# Altium schematic symbol library MT_Chip.SchLib: 50 symbols
Pins are listed as number, name and electrical type; pins without a type are passive.

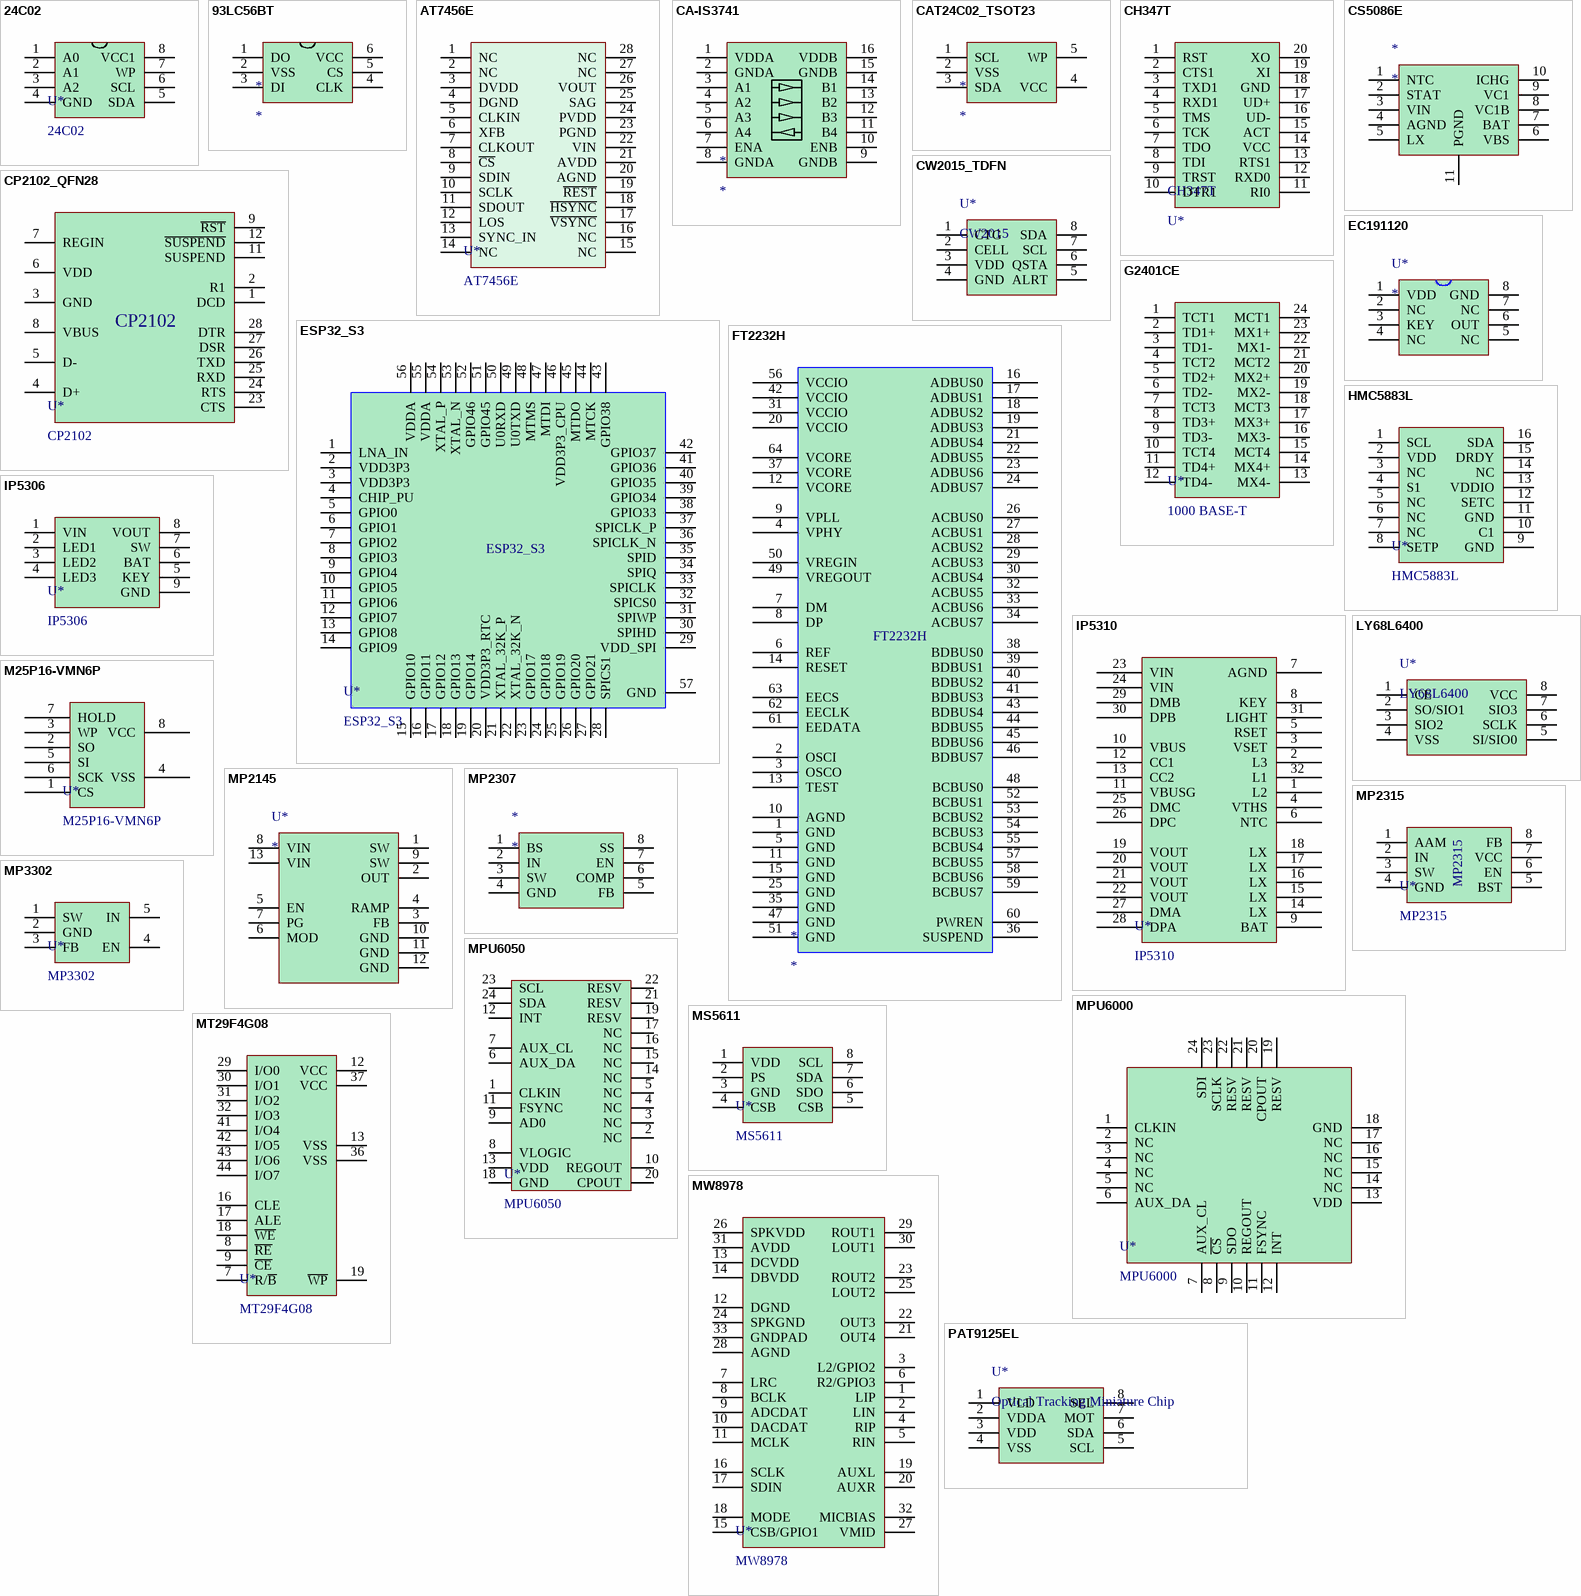
[diagram p0: symbols 24C02 to PAT9125EL]

## 24C02
designator U*
EEPROM
footprint DIP8
pins: 1 A0, 2 A1, 3 A2, 4 GND, 5 SDA, 6 SCL, 7 WP, 8 VCC1

## 93LC56BT
designator *
EEPROM
footprint SOT_23_6
pins: 1 DO, 2 VSS, 3 DI, 4 CLK, 5 CS, 6 VCC

## AT7456E
designator U*
显示驱动
footprint TSSOP28
pins: 1 NC, 2 NC, 3 DVDD, 4 DGND, 5 CLKIN, 6 XFB, 7 CLKOUT, 8 ~{CS}, 9 SDIN, 10 SCLK, 11 SDOUT, 12 LOS, 13 SYNC_IN, 14 NC, 15 NC, 16 NC, 17 ~{VSYNC}, 18 ~{HSYNC}, 19 ~{REST}, 20 AGND, 21 AVDD, 22 VIN, 23 PGND, 24 PVDD, 25 SAG, 26 VOUT, 27 NC, 28 NC

## CA-IS3741
designator *
高速四通道数字隔离器
footprint SOIC16N
pins: 1 VDDA, 2 GNDA, 3 A1, 4 A2, 5 A3, 6 A4, 7 ENA, 8 GNDA, 9 GNDB, 10 ENB, 11 B4, 12 B3, 13 B2, 14 B1, 15 GNDB, 16 VDDB

## CAT24C02_TSOT23
designator *
EEPROM
footprint SOT_23_5
pins: 1 SCL, 2 VSS, 3 SDA, 4 VCC, 5 WP

## CH347T
designator CH347T, comment U*
USB
footprint TSSOP20
pins: 1 RST, 2 CTS1, 3 TXD1, 4 RXD1, 5 TMS, 6 TCK, 7 TDO, 8 TDI, 9 TRST, 10 DTR1, 11 RI0, 12 RXD0, 13 RTS1, 14 VCC, 15 ACT, 16 UD-, 17 UD+, 18 GND, 19 XI, 20 XO

## CP2102_QFN28
designator U*, comment CP2102
USB转TTL
footprint QFN28
pins: 1 DCD, 2 R1, 3 GND, 4 D+, 5 D-, 6 VDD, 7 REGIN, 8 VBUS, 9 ~{RST}, 11 SUSPEND, 12 ~{SUSPEND}, 23 CTS, 24 RTS, 25 RXD, 26 TXD, 27 DSR, 28 DTR

## CS5086E
designator *
5V 2S电池充电
footprint ESOP10L
pins: 1 NTC, 2 STAT, 3 VIN, 4 AGND, 5 LX, 6 VBS, 7 BAT, 8 VC1B, 9 VC1, 10 ICHG, 11 PGND

## CW2015_TDFN
designator U*, comment CW2015
锂电池电量计
footprint CW2015_TDFN
pins: 1 CTG, 2 CELL, 3 VDD, 4 GND, 5 ALRT, 6 QSTA, 7 SCL, 8 SDA

## EC191120
designator U*
2秒开关机
footprint SOP8-150MIL
pins: 1 VDD, 2 NC, 3 KEY, 4 NC, 5 NC, 6 OUT, 7 NC, 8 GND

## ESP32_S3
designator U*
ESP32
footprint QFN56
pins: 1 LNA_IN, 2 VDD3P3, 3 VDD3P3, 4 CHIP_PU, 5 GPIO0, 6 GPIO1, 7 GPIO2, 8 GPIO3, 9 GPIO4, 10 GPIO5, 11 GPIO6, 12 GPIO7, 13 GPIO8, 14 GPIO9, 15 GPIO10, 16 GPIO11, 17 GPIO12, 18 GPIO13, 19 GPIO14, 20 VDD3P3_RTC, 21 XTAL_32K_P, 22 XTAL_32K_N, 23 GPIO17, 24 GPIO18, 25 GPIO19, 26 GPIO20, 27 GPIO21, 28 SPICS1, 29 VDD_SPI, 30 SPIHD, 31 SPIWP, 32 SPICS0, 33 SPICLK, 34 SPIQ, 35 SPID, 36 SPICLK_N, 37 SPICLK_P, 38 GPIO33, 39 GPIO34, 40 GPIO35, 41 GPIO36, 42 GPIO37, 43 GPIO38, 44 MTCK, 45 MTDO, 46 VDD3P3_CPU, 47 MTDI, 48 MTMS, 49 U0TXD, 50 U0RXD, 51 GPIO45, 52 GPIO46, 53 XTAL_N, 54 XTAL_P, 55 VDDA, 56 VDDA, 57 GND

## FT2232H
designator *
USB
footprint LQFP64
pins: 1 GND, 2 OSCI, 3 OSCO, 4 VPHY, 5 GND, 6 REF, 7 DM, 8 DP, 9 VPLL, 10 AGND, 11 GND, 12 VCORE, 13 TEST, 14 RESET, 15 GND, 16 ADBUS0, 17 ADBUS1, 18 ADBUS2, 19 ADBUS3, 20 VCCIO, 21 ADBUS4, 22 ADBUS5, 23 ADBUS6, 24 ADBUS7, 25 GND, 26 ACBUS0, 27 ACBUS1, 28 ACBUS2, 29 ACBUS3, 30 ACBUS4, 31 VCCIO, 32 ACBUS5, 33 ACBUS6, 34 ACBUS7, 35 GND, 36 SUSPEND, 37 VCORE, 38 BDBUS0, 39 BDBUS1, 40 BDBUS2, 41 BDBUS3, 42 VCCIO, 43 BDBUS4, 44 BDBUS5, 45 BDBUS6, 46 BDBUS7, 47 GND, 48 BCBUS0, 49 VREGOUT, 50 VREGIN, 51 GND, 52 BCBUS1, 53 BCBUS2, 54 BCBUS3, 55 BCBUS4, 56 VCCIO, 57 BCBUS5, 58 BCBUS6, 59 BCBUS7, 60 PWREN, 61 EEDATA, 62 EECLK, 63 EECS, 64 VCORE

## G2401CE
designator U*, comment 1000 BASE-T
网络变压器
footprint G2401CE
pins: 1 TCT1, 2 TD1+, 3 TD1-, 4 TCT2, 5 TD2+, 6 TD2-, 7 TCT3, 8 TD3+, 9 TD3-, 10 TCT4, 11 TD4+, 12 TD4-, 13 MX4-, 14 MX4+, 15 MCT4, 16 MX3-, 17 MX3+, 18 MCT3, 19 MX2-, 20 MX2+, 21 MCT2, 22 MX1-, 23 MX1+, 24 MCT1

## HMC5883L
designator U*
磁传感器
footprint HMC5883L_LPCC
pins: 1 SCL, 2 VDD, 3 NC, 4 S1, 5 NC, 6 NC, 7 NC, 8 SETP, 9 GND, 10 C1, 11 GND, 12 SETC, 13 VDDIO, 14 NC, 15 DRDY, 16 SDA

## IP5306
designator U*
电池充电
footprint eSOP8
pins: 1 VIN, 2 LED1, 3 LED2, 4 LED3, 5 KEY, 6 BAT, 7 SW, 8 VOUT, 9 GND

## IP5310
designator U*
电池充电
footprint QFN32
pins: 1 L2, 2 L3, 3 VSET, 4 VTHS, 5 RSET, 6 NTC, 7 AGND, 8 KEY, 9 BAT, 10 VBUS, 11 VBUSG, 12 CC1, 13 CC2, 14 LX, 15 LX, 16 LX, 17 LX, 18 LX, 19 VOUT, 20 VOUT, 21 VOUT, 22 VOUT, 23 VIN, 24 VIN, 25 DMC, 26 DPC, 27 DMA, 28 DPA, 29 DMB, 30 DPB, 31 LIGHT, 32 L1

## LY68L6400
designator U*
PSRAM
footprint SOP8-150MIL
pins: 1 CE, 2 SO/SIO1, 3 SIO2, 4 VSS, 5 SI/SIO0, 6 SCLK, 7 SIO3, 8 VCC

## M25P16-VMN6P
designator U*
FLASH
footprint SOP8-150MIL
pins: 1 CS, 2 SO, 3 WP, 4 VSS, 5 SI, 6 SCK, 7 HOLD, 8 VCC

## MP2145
designator U*
DC-DC
footprint QFN12
pins: 1 SW, 2 OUT, 3 FB, 4 RAMP, 5 EN, 6 MOD, 7 PG, 8 VIN, 9 SW, 10 GND, 11 GND, 12 GND, 13 VIN

## MP2307
designator *
DC-DC
footprint SOIC8N
pins: 1 BS, 2 IN, 3 SW, 4 GND, 5 FB, 6 COMP, 7 EN, 8 SS

## MP2315
designator U*
DC-DC
footprint TSOT23_8
pins: 1 AAM, 2 IN, 3 SW, 4 GND, 5 BST, 6 EN, 7 VCC, 8 FB

## MP3302
designator U*
LED驱动
footprint SOT_23_5
pins: 1 SW, 2 GND, 3 FB, 4 EN, 5 IN

## MPU6000
designator U*
MEMS IMU
footprint QFN24
pins: 1 CLKIN, 2 NC, 3 NC, 4 NC, 5 NC, 6 AUX_DA, 7 AUX_CL, 8 ~{CS}, 9 SDO, 10 REGOUT, 11 FSYNC, 12 INT, 13 VDD, 14 NC, 15 NC, 16 NC, 17 NC, 18 GND, 19 RESV, 20 CPOUT, 21 RESV, 22 RESV, 23 SCLK, 24 SDI

## MPU6050
designator U*
MEMS IMU
footprint QFN24
pins: 1 CLKIN, 2 NC, 3 NC, 4 NC, 5 NC, 6 AUX_DA, 7 AUX_CL, 8 VLOGIC, 9 AD0, 10 REGOUT, 11 FSYNC, 12 INT, 13 VDD, 14 NC, 15 NC, 16 NC, 17 NC, 18 GND, 19 RESV, 20 CPOUT, 21 RESV, 22 RESV, 23 SCL, 24 SDA

## MS5611
designator U*
气压计
footprint MS5611
pins: 1 VDD, 2 PS, 3 GND, 4 CSB, 5 CSB, 6 SDO, 7 SDA, 8 SCL

## MT29F4G08
designator U*
NAND FLASH
footprint TSOP_48
pins: 7 R/~{B}, 8 ~{RE}, 9 ~{CE}, 12 VCC, 13 VSS, 16 CLE, 17 ALE, 18 ~{WE}, 19 ~{WP}, 29 I/O0, 30 I/O1, 31 I/O2, 32 I/O3, 36 VSS, 37 VCC, 41 I/O4, 42 I/O5, 43 I/O6, 44 I/O7

## MW8978
designator U*
音频驱动
footprint QFN32
pins: 1 LIP, 2 LIN, 3 L2/GPIO2, 4 RIP, 5 RIN, 6 R2/GPIO3, 7 LRC, 8 BCLK, 9 ADCDAT, 10 DACDAT, 11 MCLK, 12 DGND, 13 DCVDD, 14 DBVDD, 15 CSB/GPIO1, 16 SCLK, 17 SDIN, 18 MODE, 19 AUXL, 20 AUXR, 21 OUT4, 22 OUT3, 23 ROUT2, 24 SPKGND, 25 LOUT2, 26 SPKVDD, 27 VMID, 28 AGND, 29 ROUT1, 30 LOUT1, 31 AVDD, 32 MICBIAS, 33 GNDPAD

## PAT9125EL
designator U*, comment Optical Tracking Miniature Chip
光流追踪
footprint PAT9125EL
pins: 1 VLD, 2 VDDA, 3 VDD, 4 VSS, 5 SCL, 6 SDA, 7 MOT, 8 SEL

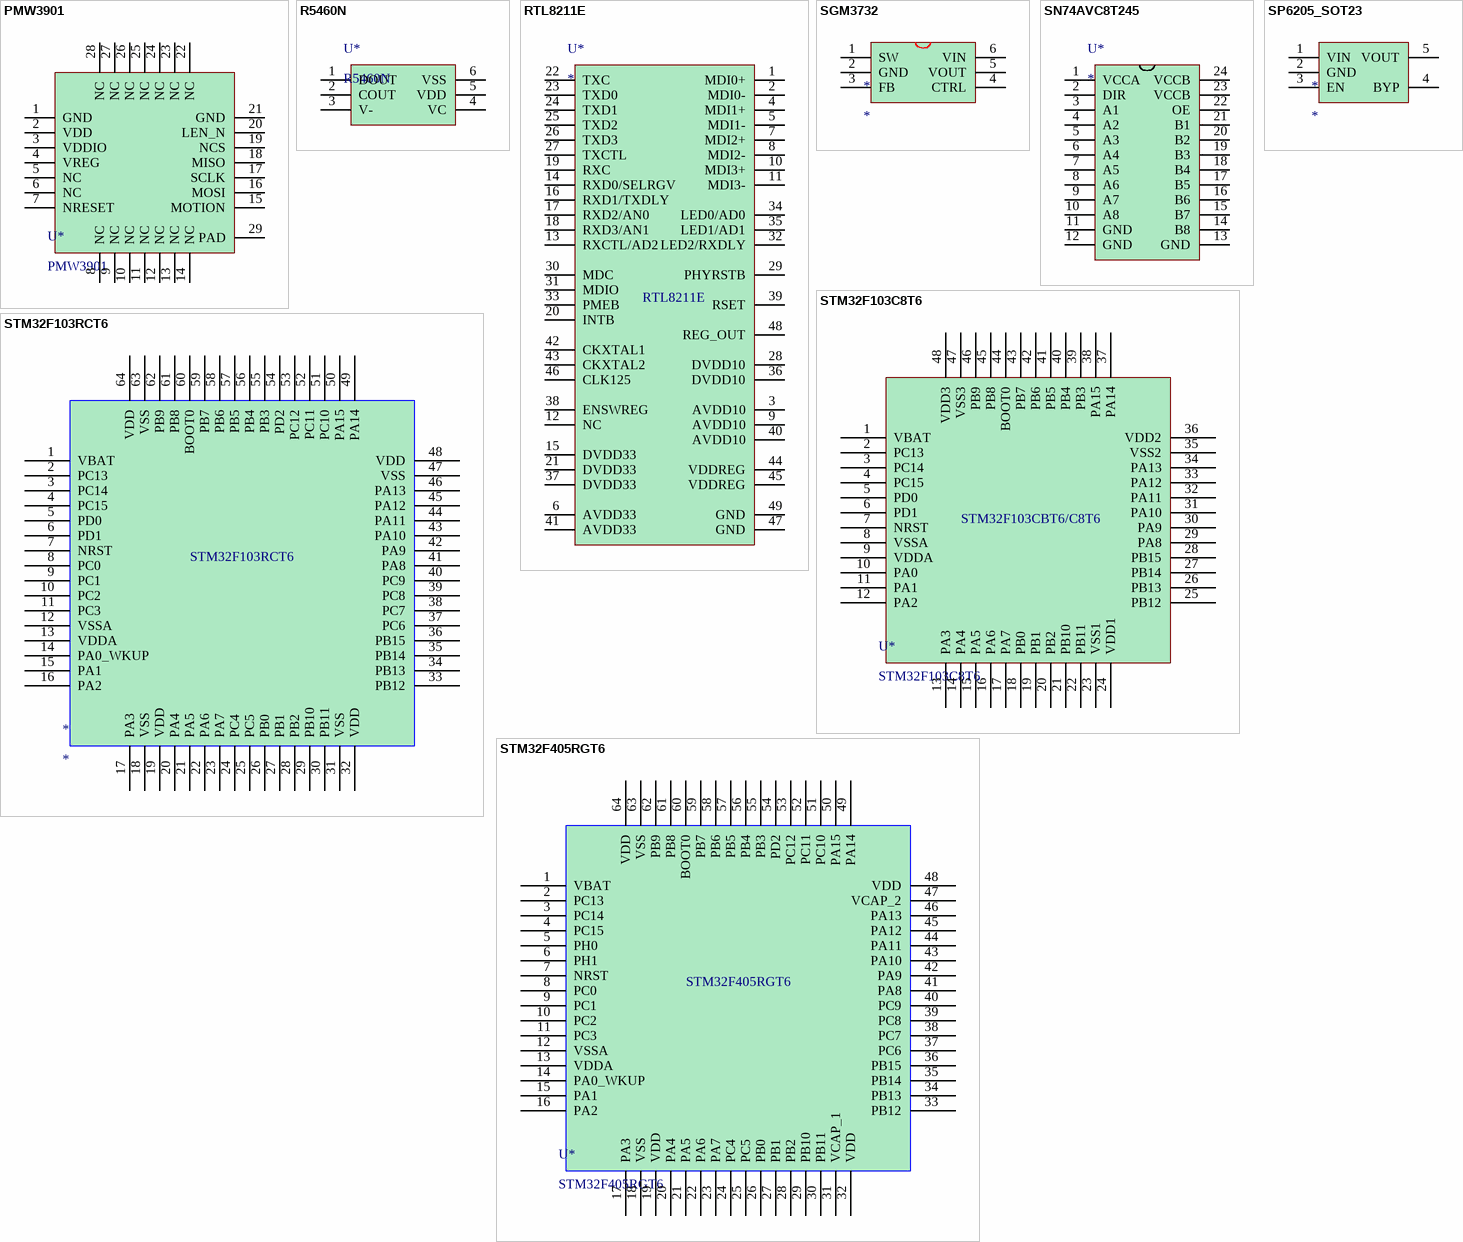
[diagram p1: symbols PMW3901 to STM32F405RGT6]

## PMW3901
designator U*
光流追踪
footprint PMW3901
pins: 1 GND, 2 VDD, 3 VDDIO, 4 VREG, 5 NC, 6 NC, 7 NRESET, 8 NC, 9 NC, 10 NC, 11 NC, 12 NC, 13 NC, 14 NC, 15 MOTION, 16 MOSI, 17 SCLK, 18 MISO, 19 NCS, 20 LEN_N, 21 GND, 22 NC, 23 NC, 24 NC, 25 NC, 26 NC, 27 NC, 28 NC, 29 PAD

## R5460N
designator U*
2S 锂电池保护
footprint SOT_23_6
pins: 1 DOUT, 2 COUT, 3 V-, 4 VC, 5 VDD, 6 VSS

## RTL8211E
designator U*
以太网PHY
footprint QFN48
pins: 1 MDI0+, 2 MDI0-, 3 AVDD10, 4 MDI1+, 5 MDI1-, 6 AVDD33, 7 MDI2+, 8 MDI2-, 9 AVDD10, 10 MDI3+, 11 MDI3-, 12 NC, 13 RXCTL/AD2, 14 RXD0/SELRGV, 15 DVDD33, 16 RXD1/TXDLY, 17 RXD2/AN0, 18 RXD3/AN1, 19 RXC, 20 INTB, 21 DVDD33, 22 TXC, 23 TXD0, 24 TXD1, 25 TXD2, 26 TXD3, 27 TXCTL, 28 DVDD10, 29 PHYRSTB, 30 MDC, 31 MDIO, 32 LED2/RXDLY, 33 PMEB, 34 LED0/AD0, 35 LED1/AD1, 36 DVDD10, 37 DVDD33, 38 ENSWREG, 39 RSET, 40 AVDD10, 41 AVDD33, 42 CKXTAL1, 43 CKXTAL2, 44 VDDREG, 45 VDDREG, 46 CLK125, 47 GND, 48 REG_OUT, 49 GND

## SGM3732
designator *
LED驱动 38V
footprint TSOT_23_6
pins: 1 SW, 2 GND, 3 FB, 4 CTRL, 5 VOUT, 6 VIN

## SN74AVC8T245
designator U*
电平转换
footprint TVSOP24
pins: 1 VCCA, 2 DIR, 3 A1, 4 A2, 5 A3, 6 A4, 7 A5, 8 A6, 9 A7, 10 A8, 11 GND, 12 GND, 13 GND, 14 B8, 15 B7, 16 B6, 17 B5, 18 B4, 19 B3, 20 B2, 21 B1, 22 OE, 23 VCCB, 24 VCCB

## SP6205_SOT23
designator *
LDO低噪声
footprint SOT_23_5
pins: 1 VIN, 2 GND, 3 EN, 4 BYP, 5 VOUT

## STM32F103C8T6
designator U*
STM32
footprint LQFP48
pins: 1 VBAT, 2 PC13, 3 PC14, 4 PC15, 5 PD0, 6 PD1, 7 NRST, 8 VSSA, 9 VDDA, 10 PA0, 11 PA1, 12 PA2, 13 PA3, 14 PA4, 15 PA5, 16 PA6, 17 PA7, 18 PB0, 19 PB1, 20 PB2, 21 PB10, 22 PB11, 23 VSS1, 24 VDD1, 25 PB12, 26 PB13, 27 PB14, 28 PB15, 29 PA8, 30 PA9, 31 PA10, 32 PA11, 33 PA12, 34 PA13, 35 VSS2, 36 VDD2, 37 PA14, 38 PA15, 39 PB3, 40 PB4, 41 PB5, 42 PB6, 43 PB7, 44 BOOT0, 45 PB8, 46 PB9, 47 VSS3, 48 VDD3
text: STM32F103CBT6/C8T6

## STM32F103RCT6
designator *
STM32
footprint LQFP64
pins: 1 VBAT, 2 PC13, 3 PC14, 4 PC15, 5 PD0, 6 PD1, 7 NRST, 8 PC0, 9 PC1, 10 PC2, 11 PC3, 12 VSSA, 13 VDDA, 14 PA0_WKUP, 15 PA1, 16 PA2, 17 PA3, 18 VSS, 19 VDD, 20 PA4, 21 PA5, 22 PA6, 23 PA7, 24 PC4, 25 PC5, 26 PB0, 27 PB1, 28 PB2, 29 PB10, 30 PB11, 31 VSS, 32 VDD, 33 PB12, 34 PB13, 35 PB14, 36 PB15, 37 PC6, 38 PC7, 39 PC8, 40 PC9, 41 PA8, 42 PA9, 43 PA10, 44 PA11, 45 PA12, 46 PA13, 47 VSS, 48 VDD, 49 PA14, 50 PA15, 51 PC10, 52 PC11, 53 PC12, 54 PD2, 55 PB3, 56 PB4, 57 PB5, 58 PB6, 59 PB7, 60 BOOT0, 61 PB8, 62 PB9, 63 VSS, 64 VDD

## STM32F405RGT6
designator U*
STM32
footprint LQFP64
pins: 1 VBAT, 2 PC13, 3 PC14, 4 PC15, 5 PH0, 6 PH1, 7 NRST, 8 PC0, 9 PC1, 10 PC2, 11 PC3, 12 VSSA, 13 VDDA, 14 PA0_WKUP, 15 PA1, 16 PA2, 17 PA3, 18 VSS, 19 VDD, 20 PA4, 21 PA5, 22 PA6, 23 PA7, 24 PC4, 25 PC5, 26 PB0, 27 PB1, 28 PB2, 29 PB10, 30 PB11, 31 VCAP_1, 32 VDD, 33 PB12, 34 PB13, 35 PB14, 36 PB15, 37 PC6, 38 PC7, 39 PC8, 40 PC9, 41 PA8, 42 PA9, 43 PA10, 44 PA11, 45 PA12, 46 PA13, 47 VCAP_2, 48 VDD, 49 PA14, 50 PA15, 51 PC10, 52 PC11, 53 PC12, 54 PD2, 55 PB3, 56 PB4, 57 PB5, 58 PB6, 59 PB7, 60 BOOT0, 61 PB8, 62 PB9, 63 VSS, 64 VDD

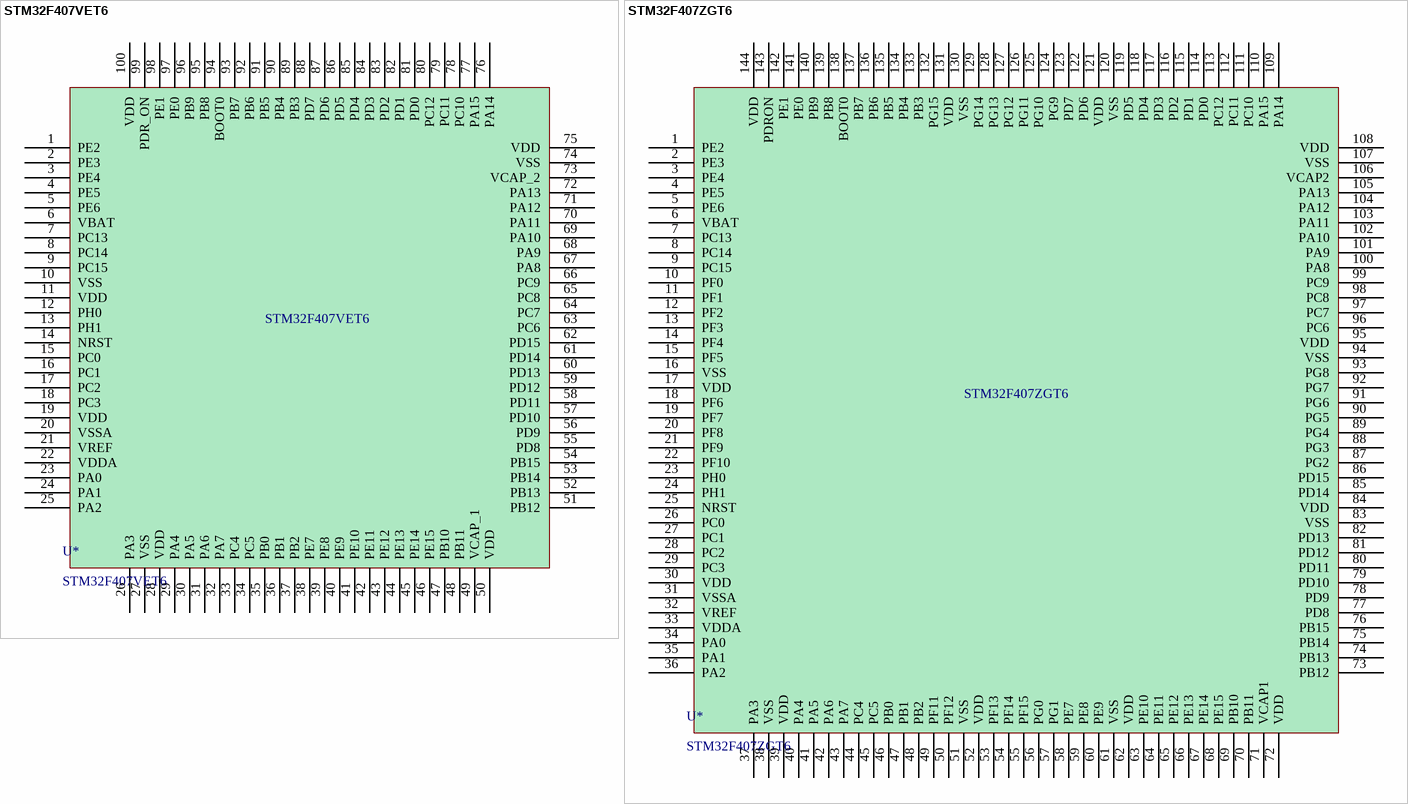
[diagram p2: symbols STM32F407VET6 to STM32F407ZGT6]

## STM32F407VET6
designator U*
STM32
footprint LQFP100
pins: 1 PE2, 2 PE3, 3 PE4, 4 PE5, 5 PE6, 6 VBAT, 7 PC13, 8 PC14, 9 PC15, 10 VSS, 11 VDD, 12 PH0, 13 PH1, 14 NRST, 15 PC0, 16 PC1, 17 PC2, 18 PC3, 19 VDD, 20 VSSA, 21 VREF, 22 VDDA, 23 PA0, 24 PA1, 25 PA2, 26 PA3, 27 VSS, 28 VDD, 29 PA4, 30 PA5, 31 PA6, 32 PA7, 33 PC4, 34 PC5, 35 PB0, 36 PB1, 37 PB2, 38 PE7, 39 PE8, 40 PE9, 41 PE10, 42 PE11, 43 PE12, 44 PE13, 45 PE14, 46 PE15, 47 PB10, 48 PB11, 49 VCAP_1, 50 VDD, 51 PB12, 52 PB13, 53 PB14, 54 PB15, 55 PD8, 56 PD9, 57 PD10, 58 PD11, 59 PD12, 60 PD13, 61 PD14, 62 PD15, 63 PC6, 64 PC7, 65 PC8, 66 PC9, 67 PA8, 68 PA9, 69 PA10, 70 PA11, 71 PA12, 72 PA13, 73 VCAP_2, 74 VSS, 75 VDD, 76 PA14, 77 PA15, 78 PC10, 79 PC11, 80 PC12, 81 PD0, 82 PD1, 83 PD2, 84 PD3, 85 PD4, 86 PD5, 87 PD6, 88 PD7, 89 PB3, 90 PB4, 91 PB5, 92 PB6, 93 PB7, 94 BOOT0, 95 PB8, 96 PB9, 97 PE0, 98 PE1, 99 PDR_ON, 100 VDD

## STM32F407ZGT6
designator U*
STM32
footprint LQFP144
pins: 1 PE2, 2 PE3, 3 PE4, 4 PE5, 5 PE6, 6 VBAT, 7 PC13, 8 PC14, 9 PC15, 10 PF0, 11 PF1, 12 PF2, 13 PF3, 14 PF4, 15 PF5, 16 VSS, 17 VDD, 18 PF6, 19 PF7, 20 PF8, 21 PF9, 22 PF10, 23 PH0, 24 PH1, 25 NRST, 26 PC0, 27 PC1, 28 PC2, 29 PC3, 30 VDD, 31 VSSA, 32 VREF, 33 VDDA, 34 PA0, 35 PA1, 36 PA2, 37 PA3, 38 VSS, 39 VDD, 40 PA4, 41 PA5, 42 PA6, 43 PA7, 44 PC4, 45 PC5, 46 PB0, 47 PB1, 48 PB2, 49 PF11, 50 PF12, 51 VSS, 52 VDD, 53 PF13, 54 PF14, 55 PF15, 56 PG0, 57 PG1, 58 PE7, 59 PE8, 60 PE9, 61 VSS, 62 VDD, 63 PE10, 64 PE11, 65 PE12, 66 PE13, 67 PE14, 68 PE15, 69 PB10, 70 PB11, 71 VCAP1, 72 VDD, 73 PB12, 74 PB13, 75 PB14, 76 PB15, 77 PD8, 78 PD9, 79 PD10, 80 PD11, 81 PD12, 82 PD13, 83 VSS, 84 VDD, 85 PD14, 86 PD15, 87 PG2, 88 PG3, 89 PG4, 90 PG5, 91 PG6, 92 PG7, 93 PG8, 94 VSS, 95 VDD, 96 PC6, 97 PC7, 98 PC8, 99 PC9, 100 PA8, 101 PA9, 102 PA10, 103 PA11, 104 PA12, 105 PA13, 106 VCAP2, 107 VSS, 108 VDD, 109 PA14, 110 PA15, 111 PC10, 112 PC11, 113 PC12, 114 PD0, 115 PD1, 116 PD2, 117 PD3, 118 PD4, 119 PD5, 120 VSS, 121 VDD, 122 PD6, 123 PD7, 124 PG9, 125 PG10, 126 PG11, 127 PG12, 128 PG13, 129 PG14, 130 VSS, 131 VDD, 132 PG15, 133 PB3, 134 PB4, 135 PB5, 136 PB6, 137 PB7, 138 BOOT0, 139 PB8, 140 PB9, 141 PE0, 142 PE1, 143 PDRON, 144 VDD

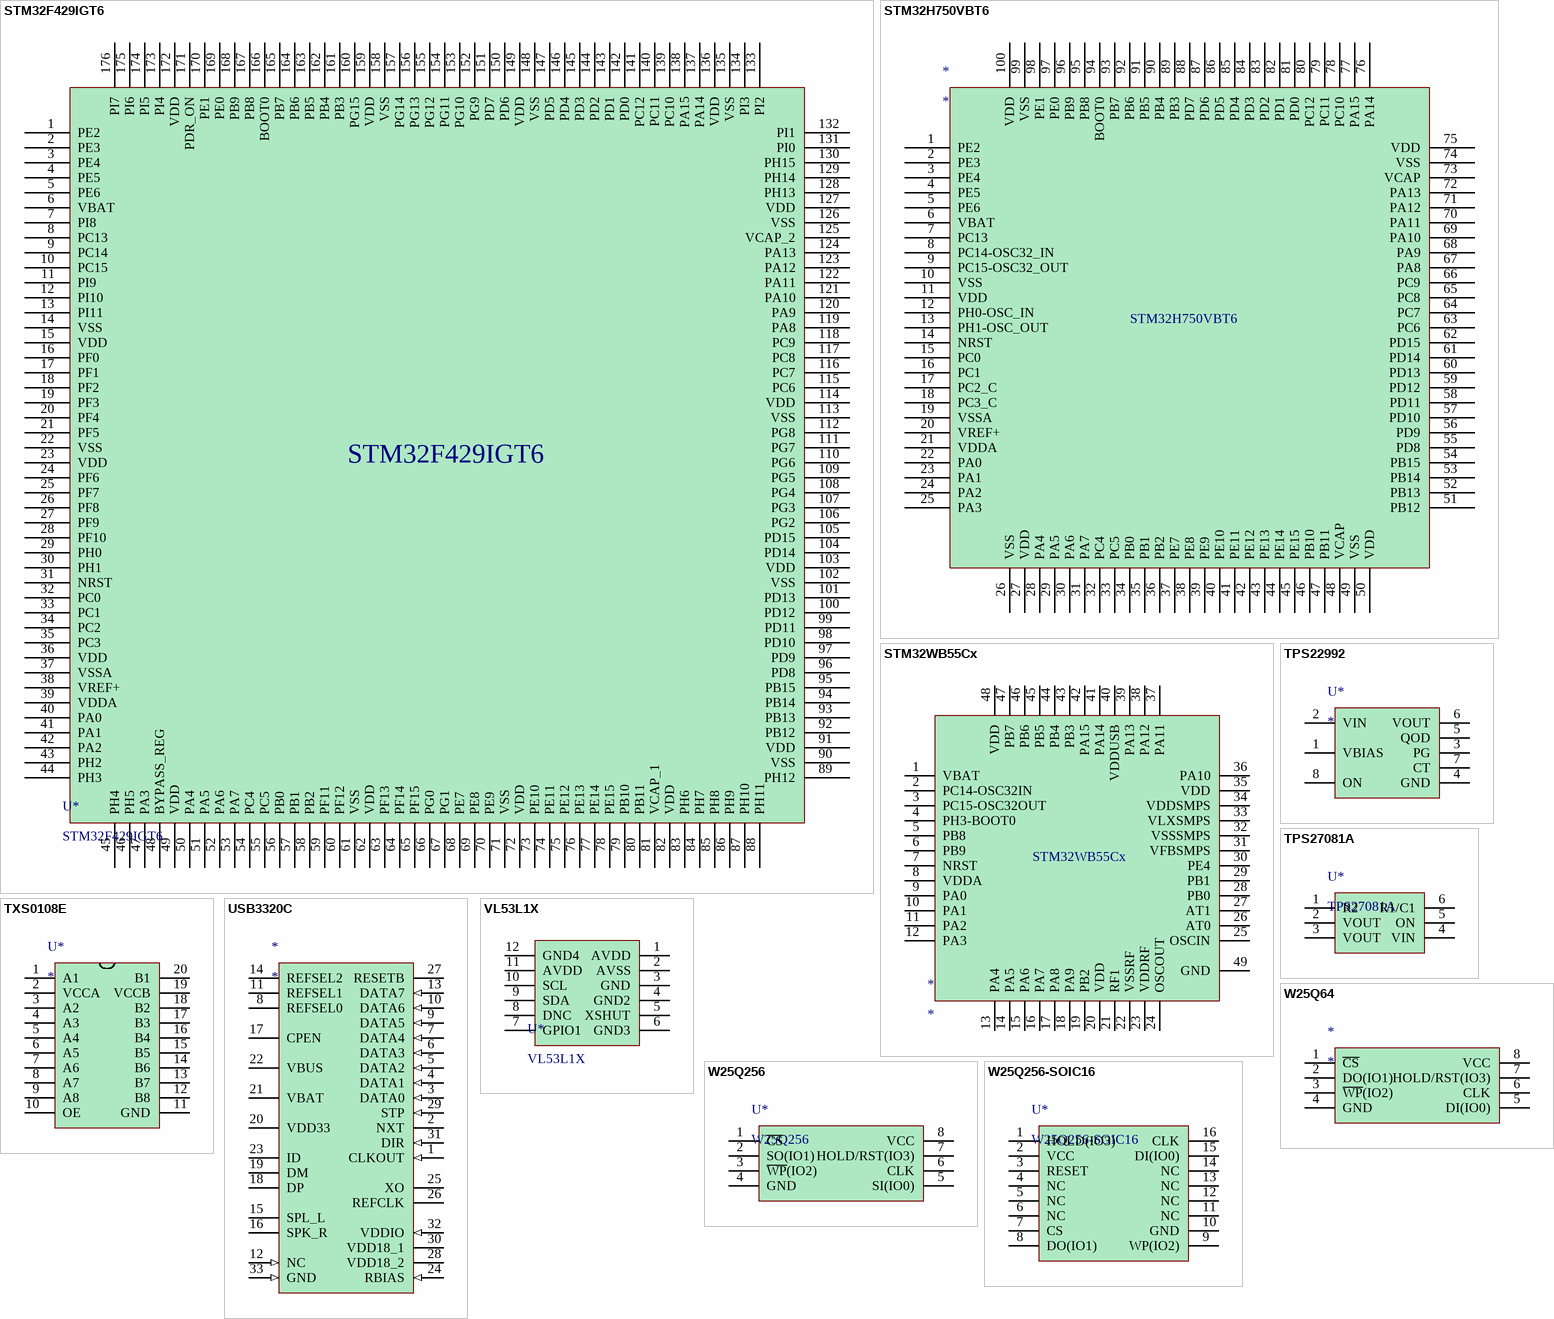
[diagram p3: symbols STM32F429IGT6 to W25Q256-SOIC16]

## STM32F429IGT6
designator U*
STM32
footprint LQFP176
pins: 1 PE2, 2 PE3, 3 PE4, 4 PE5, 5 PE6, 6 VBAT, 7 PI8, 8 PC13, 9 PC14, 10 PC15, 11 PI9, 12 PI10, 13 PI11, 14 VSS, 15 VDD, 16 PF0, 17 PF1, 18 PF2, 19 PF3, 20 PF4, 21 PF5, 22 VSS, 23 VDD, 24 PF6, 25 PF7, 26 PF8, 27 PF9, 28 PF10, 29 PH0, 30 PH1, 31 NRST, 32 PC0, 33 PC1, 34 PC2, 35 PC3, 36 VDD, 37 VSSA, 38 VREF+, 39 VDDA, 40 PA0, 41 PA1, 42 PA2, 43 PH2, 44 PH3, 45 PH4, 46 PH5, 47 PA3, 48 BYPASS_REG, 49 VDD, 50 PA4, 51 PA5, 52 PA6, 53 PA7, 54 PC4, 55 PC5, 56 PB0, 57 PB1, 58 PB2, 59 PF11, 60 PF12, 61 VSS, 62 VDD, 63 PF13, 64 PF14, 65 PF15, 66 PG0, 67 PG1, 68 PE7, 69 PE8, 70 PE9, 71 VSS, 72 VDD, 73 PE10, 74 PE11, 75 PE12, 76 PE13, 77 PE14, 78 PE15, 79 PB10, 80 PB11, 81 VCAP_1, 82 VDD, 83 PH6, 84 PH7, 85 PH8, 86 PH9, 87 PH10, 88 PH11, 89 PH12, 90 VSS, 91 VDD, 92 PB12, 93 PB13, 94 PB14, 95 PB15, 96 PD8, 97 PD9, 98 PD10, 99 PD11, 100 PD12, 101 PD13, 102 VSS, 103 VDD, 104 PD14, 105 PD15, 106 PG2, 107 PG3, 108 PG4, 109 PG5, 110 PG6, 111 PG7, 112 PG8, 113 VSS, 114 VDD, 115 PC6, 116 PC7, 117 PC8, 118 PC9, 119 PA8, 120 PA9, 121 PA10, 122 PA11, 123 PA12, 124 PA13, 125 VCAP_2, 126 VSS, 127 VDD, 128 PH13, 129 PH14, 130 PH15, 131 PI0, 132 PI1, 133 PI2, 134 PI3, 135 VSS, 136 VDD, 137 PA14, 138 PA15, 139 PC10, 140 PC11, 141 PC12, 142 PD0, 143 PD1, 144 PD2, 145 PD3, 146 PD4, 147 PD5, 148 VSS, 149 VDD, 150 PD6, 151 PD7, 152 PG9, 153 PG10, 154 PG11, 155 PG12, 156 PG13, 157 PG14, 158 VSS, 159 VDD, 160 PG15, 161 PB3, 162 PB4, 163 PB5, 164 PB6, 165 PB7, 166 BOOT0, 167 PB8, 168 PB9, 169 PE0, 170 PE1, 171 PDR_ON, 172 VDD, 173 PI4, 174 PI5, 175 PI6, 176 PI7

## STM32H750VBT6
designator *
STM32
footprint LQFP100
pins: 1 PE2, 2 PE3, 3 PE4, 4 PE5, 5 PE6, 6 VBAT, 7 PC13, 8 PC14-OSC32_IN, 9 PC15-OSC32_OUT, 10 VSS, 11 VDD, 12 PH0-OSC_IN, 13 PH1-OSC_OUT, 14 NRST, 15 PC0, 16 PC1, 17 PC2_C, 18 PC3_C, 19 VSSA, 20 VREF+, 21 VDDA, 22 PA0, 23 PA1, 24 PA2, 25 PA3, 26 VSS, 27 VDD, 28 PA4, 29 PA5, 30 PA6, 31 PA7, 32 PC4, 33 PC5, 34 PB0, 35 PB1, 36 PB2, 37 PE7, 38 PE8, 39 PE9, 40 PE10, 41 PE11, 42 PE12, 43 PE13, 44 PE14, 45 PE15, 46 PB10, 47 PB11, 48 VCAP, 49 VSS, 50 VDD, 51 PB12, 52 PB13, 53 PB14, 54 PB15, 55 PD8, 56 PD9, 57 PD10, 58 PD11, 59 PD12, 60 PD13, 61 PD14, 62 PD15, 63 PC6, 64 PC7, 65 PC8, 66 PC9, 67 PA8, 68 PA9, 69 PA10, 70 PA11, 71 PA12, 72 PA13, 73 VCAP, 74 VSS, 75 VDD, 76 PA14, 77 PA15, 78 PC10, 79 PC11, 80 PC12, 81 PD0, 82 PD1, 83 PD2, 84 PD3, 85 PD4, 86 PD5, 87 PD6, 88 PD7, 89 PB3, 90 PB4, 91 PB5, 92 PB6, 93 PB7, 94 BOOT0, 95 PB8, 96 PB9, 97 PE0, 98 PE1, 99 VSS, 100 VDD

## STM32WB55Cx
designator *
STM32
footprint UFQFPN48
pins: 1 VBAT, 2 PC14-OSC32IN, 3 PC15-OSC32OUT, 4 PH3-BOOT0, 5 PB8, 6 PB9, 7 NRST, 8 VDDA, 9 PA0, 10 PA1, 11 PA2, 12 PA3, 13 PA4, 14 PA5, 15 PA6, 16 PA7, 17 PA8, 18 PA9, 19 PB2, 20 VDD, 21 RF1, 22 VSSRF, 23 VDDRF, 24 OSCOUT, 25 OSCIN, 26 AT0, 27 AT1, 28 PB0, 29 PB1, 30 PE4, 31 VFBSMPS, 32 VSSSMPS, 33 VLXSMPS, 34 VDDSMPS, 35 VDD, 36 PA10, 37 PA11, 38 PA12, 39 PA13, 40 VDDUSB, 41 PA14, 42 PA15, 43 PB3, 44 PB4, 45 PB5, 46 PB6, 47 PB7, 48 VDD, 49 GND

## TPS22992
designator U*
负载开关 5V 8.7mΩ 6A
footprint WQFN8
pins: 1 VBIAS, 2 VIN, 3 PG, 4 GND, 5 QOD, 6 VOUT, 7 CT, 8 ON

## TPS27081A
designator U*
高侧负载开关
footprint SOT_23_6
pins: 1 R2, 2 VOUT, 3 VOUT, 4 VIN, 5 ON, 6 R1/C1

## TXS0108E
designator U*
电平转换
footprint TSSOP20
pins: 1 A1, 2 VCCA, 3 A2, 4 A3, 5 A4, 6 A5, 7 A6, 8 A7, 9 A8, 10 OE, 11 GND, 12 B8, 13 B7, 14 B6, 15 B5, 16 B4, 17 B3, 18 B2, 19 VCCB, 20 B1

## USB3320C
designator *
USB
footprint USB3320C
pins: 1 CLKOUT (in), 2 NXT (power), 3 DATA0 (in), 4 DATA1 (in), 5 DATA2 (in), 6 DATA3 (in), 7 DATA4 (in), 8 REFSEL0, 9 DATA5 (in), 10 DATA6 (in), 11 REFSEL1, 12 NC (in), 13 DATA7 (in), 14 REFSEL2, 15 SPL_L, 16 SPK_R, 17 CPEN, 18 DP, 19 DM, 20 VDD33, 21 VBAT, 22 VBUS, 23 ID, 24 RBIAS (in), 25 XO, 26 REFCLK, 27 RESETB, 28 VDD18_2, 29 STP (in), 30 VDD18_1, 31 DIR (in), 32 VDDIO (in), 33 GND (in)

## VL53L1X
designator U*
激光测距
footprint LGA12
pins: 1 AVDD, 2 AVSS, 3 GND, 4 GND2, 5 XSHUT, 6 GND3, 7 GPIO1, 8 DNC, 9 SDA, 10 SCL, 11 AVDD, 12 GND4

## W25Q64
designator *
FLASH
footprint SOIC8-208MIL
pins: 1 ~{CS}, 2 DO(IO1), 3 ~{WP}(IO2), 4 GND, 5 DI(IO0) (power), 6 CLK, 7 HOLD/RST(IO3) (power), 8 VCC

## W25Q256
designator U*
FLASH
footprint WSON8
pins: 1 ~{CS}, 2 SO(IO1), 3 ~{WP}(IO2), 4 GND, 5 SI(IO0) (power), 6 CLK, 7 HOLD/RST(IO3) (power), 8 VCC

## W25Q256-SOIC16
designator U*
FLASH
footprint SOIC16-300mil
pins: 1 HOLD(IO3), 2 VCC, 3 RESET, 4 NC, 5 NC (power), 6 NC, 7 CS (power), 8 DO(IO1), 9 WP(IO2), 10 GND, 11 NC, 12 NC, 13 NC, 14 NC, 15 DI(IO0), 16 CLK